# Altium integrated library library91.IntLib: 141 symbols (part 1 of 2)
Pins are listed as number, name and electrical type; pins without a type are passive.

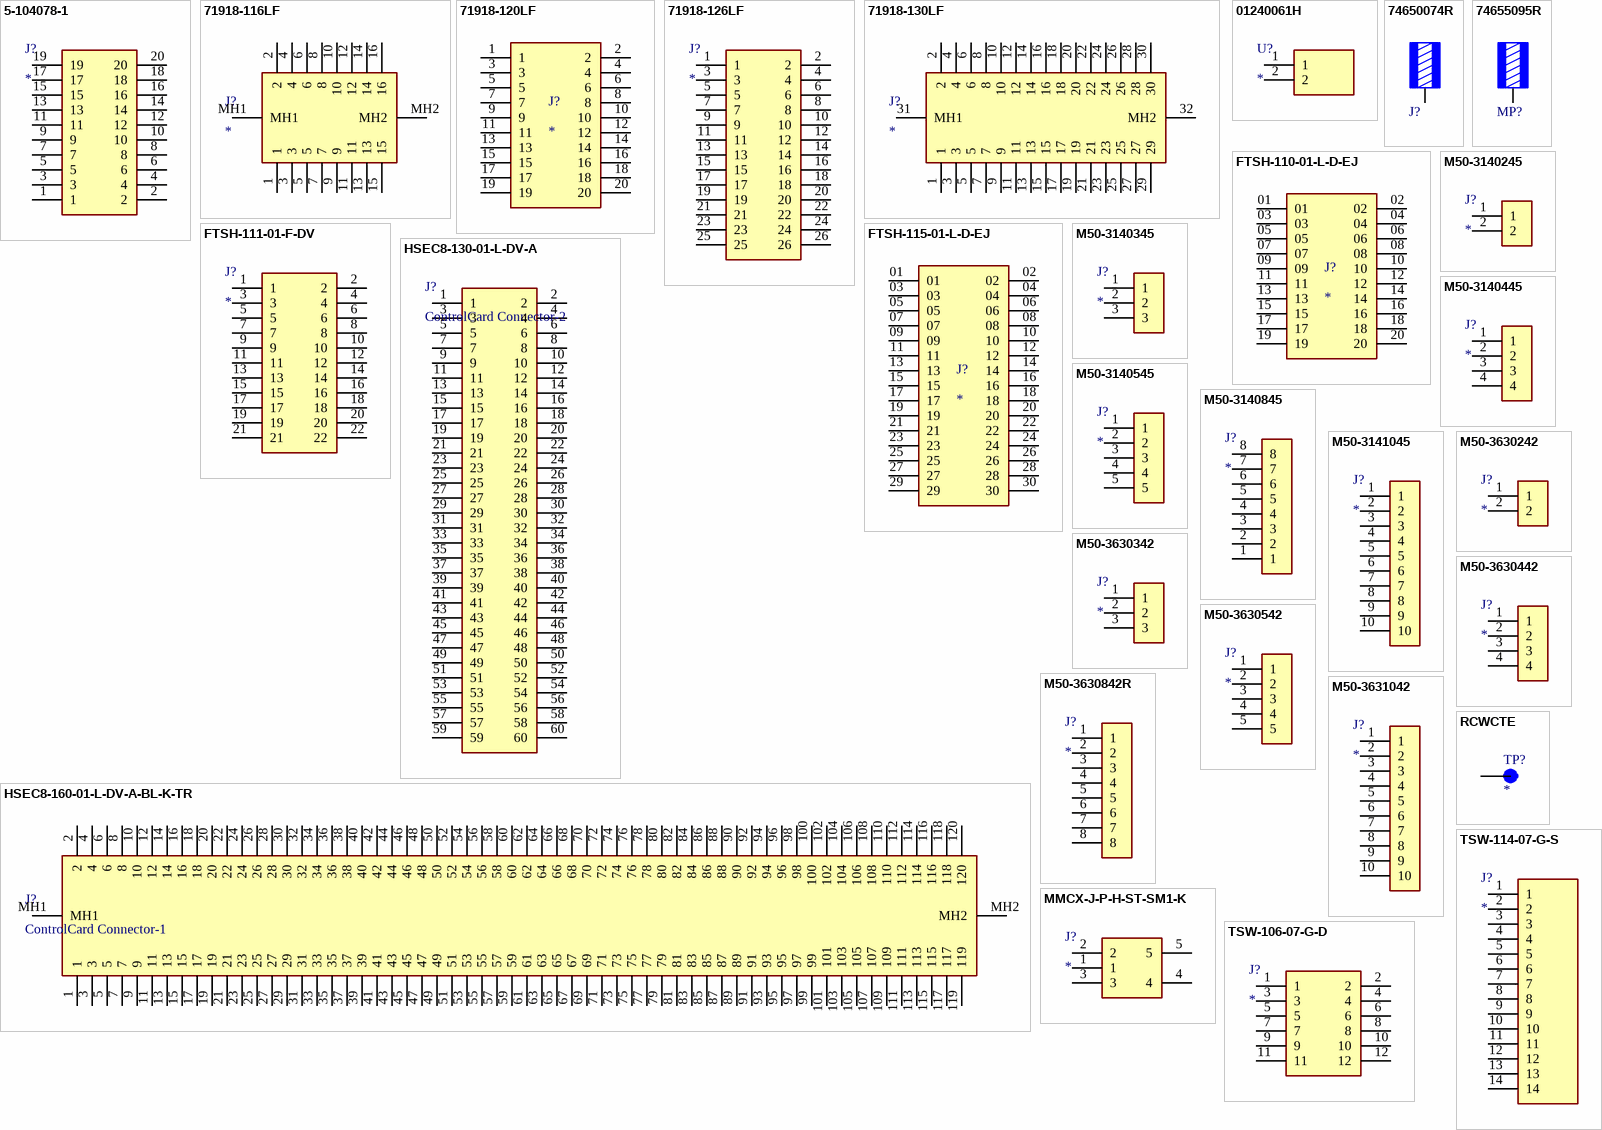
[diagram p0: symbols 5-104078-1 to TSW-114-07-G-S]

## 5-104078-1
designator J?
2x10 RECT 0.05 FOR JTAG-20; Manufacturer_Name: TE Connectivity; Manufacturer_Part_Number: 5-104078-1; Datasheet Link: https://www.te.com/commerce/DocumentDelivery/DDEControllerhttps://www.te.com/commerce/DocumentDelivery/DDEController?Action=showdoc&DocId=Customer+Drawing%7F104078%7FW%7Fpdf%7FEnglish%7FENG_CD_104078_W.pdf%7F5-104078-1?Action=showdoc&DocId=Customer+Drawin; Height: 8.97mm; Mouser Part Number: 571-5-104078-1; Mouser Price/Stock: https://www.mouser.co.uk/ProductDetail/TE-Connectivity/5-104078-1?qs=5TU6wCHKgpbr5ruvfBZGyA%3D%3D; Arrow Part Number: 5-104078-1; Arrow Price/Stock: https://www.arrow.com/en/products/5-104078-1/te-connectivity?utm_currency=USD&region=nac
footprint 51040781
pins: 1, 2, 3, 4, 5, 6, 7, 8, 9, 10, 11, 12, 13, 14, 15, 16, 17, 18, 19, 20

## 71918-116LF
designator J?
CONN HEADER VERT 16POS 2.54MM LATCHLOCK; Manufacturer_Name: Amphenol Communications Solutions; Manufacturer_Part_Number: 71918-116LF; Datasheet Link: https://cdn.amphenol-cs.com/media/wysiwyg/files/drawing/71918.pdf; Height: 17.7mm; Arrow Part Number: 71918-116LF; Arrow Price/Stock: https://www.arrow.com/en/products/71918-116lf/amphenol-fci?utm_currency=USD&region=europe
footprint 71918116LF
pins: 1, 2, 3, 4, 5, 6, 7, 8, 9, 10, 11, 12, 13, 14, 15, 16, MH1, MH2

## 71918-120LF
designator J?
CONN HEADER VERT 20POS 2.54MM LATCHLOCK; MF: Amphenol ICC; MP: 71918-120LF; Package: None; Price: None; Value: *; Availability: Unavailable
footprint AMPHENOL_71918-120LF
pins: 1, 2, 3, 4, 5, 6, 7, 8, 9, 10, 11, 12, 13, 14, 15, 16, 17, 18, 19, 20

## 71918-126LF
designator J?
CONN HEADER VERT 26POS 2.54MM LATCHLOCK; Manufacturer_Name: Amphenol Communications Solutions; Manufacturer_Part_Number: 71918-126LF; Datasheet Link: https://cdn.amphenol-cs.com/media/wysiwyg/files/drawing/71918.pdf; Height: 26.8mm
footprint 71918126LF
pins: 1, 2, 3, 4, 5, 6, 7, 8, 9, 10, 11, 12, 13, 14, 15, 16, 17, 18, 19, 20, 21, 22, 23, 24, 25, 26

## 71918-130LF
designator J?
CONN HEADER VERT 30POS 2.54MM LATCHLOCK; Manufacturer_Name: Amphenol Communications Solutions; Manufacturer_Part_Number: 71918-130LF; Datasheet Link: https://cdn.amphenol-cs.com/media/wysiwyg/files/drawing/71918.pdf; Height: 26.8mm; Arrow Part Number: 71918-130LF; Arrow Price/Stock: https://www.arrow.com/en/products/71918-130lf/amphenol-fci?utm_currency=USD&region=nac
footprint 71918130LF
pins: 1, 2, 3, 4, 5, 6, 7, 8, 9, 10, 11, 12, 13, 14, 15, 16, 17, 18, 19, 20, 21, 22, 23, 24, 25, 26, 27, 28, 29, 30, 31 MH1, 32 MH2

## 01240061H
designator U?
FUSE CLIP HOLDER THT 3AG/3AB 40A; Manufacturer_Name: LITTELFUSE; Manufacturer_Part_Number: 01240061H; Datasheet Link: https://www.littelfuse.com/media?resourcetype=datasheets&itemid=281b065a-d81e-4e26-9035-84e73d4bb028&filename=littelfuse-fuse-clip-124-datasheet.pdf; Height: 10.67mm; Mouser Part Number: 576-01240061H; Mouser Price/Stock: https://www.mouser.co.uk/ProductDetail/Littelfuse/01240061H?qs=81r%252BiQLm7BSgqEC6g%252BUS9Q%3D%3D; Arrow Part Number: 01240061H; Arrow Price/Stock: https://www.arrow.com/en/products/01240061h/littelfuse?utm_currency=USD&region=europe
footprint 01240061H
pins: 1, 2

## 74650074R
designator J?  (value not drawn)
TERM REDCUBE M4 THT; Manufacturer Part Number: 74650074R; Manufacturer: Wurth Elektronik; Match Code: WP-THRBU; Rated Current: 50A; Surface: Tin; Thread Length: 2.5mm; ComponentLink1Description: Website Link; ComponentLink1URL: https://www.we-online.com/redexpert/article/74650074R?ad; ComponentLink2Description: Datasheet Link; ComponentLink2URL: https://www.we-online.com/redexpert/spec/74650074R?ad; Category: REDCUBE THR; Mount: Through Hole Reflow; Operating Temperature Max: 150°C; Operating Temperature Min: -55°C; Packaging: Tape and Reel; Length: 7mm; Width: 7mm; Height: 3mm; Material: Brass; Number of Pins: 4; Thread Size: M4
footprint 74650074 (REDCUBE THR with internal thread, M4x2.5mm, through)
pins: 1

## 74655095R
designator MP?, comment M5 x 3.5mm  (value not drawn)
TERM REDCUBE M5 THT; Manufacturer Part Number: 74655095R; Manufacturer: Wurth Elektronik; Match Code: WP-THRBU; Rated Current: 85A; Surface: Tin; ComponentLink1Description: Website Link; ComponentLink1URL: https://www.we-online.com/redexpert/article/74655095R?ad; ComponentLink2Description: Datasheet Link; ComponentLink2URL: https://www.we-online.com/redexpert/spec/74655095R?ad; Category: REDCUBE THR; Mount: Through Hole Reflow; Operating Temperature Max: 150°C; Operating Temperature Min: -55°C; Packaging: Tape and Reel; Length: 10mm; Width: 10mm; Height: 4mm; Material: Brass; Number of Pins: 8; Thread Length: 3.5mm; Thread Size: M5
footprint 74655095 (REDCUBE THR with internal thread, M5x3.5mm, through)
pins: 1

## FTSH-110-01-L-D-EJ
designator J?
CONN HEADER VERT 20POS 1.27MM LATCHLOCK; MP: FTSH-110-01-L-D-EJ; MF: Samtec; Availability: Unavailable; Value: *; Price: None; Package: None
footprint SAMTEC_FTSH-110-01-L-D-EJ
pins: 01, 02, 03, 04, 05, 06, 07, 08, 09, 10, 11, 12, 13, 14, 15, 16, 17, 18, 19, 20

## FTSH-111-01-F-DV
designator J?
CONN HEADER SMD 2x11POS 1.27MM; Manufacturer_Name: SAMTEC; Manufacturer_Part_Number: FTSH-111-01-F-DV; Datasheet Link: https://suddendocs.samtec.com/prints/ftsh-1xx-xx-xxx-dv-xxx-xxx-x-xx-mkt.pdf?_gl=1*1e7216n*_ga*ODgwNjE2ODg0LjE2NDkxNjE4OTQ.*_ga_3KFNZC07WW*MTY3ODA4Njg4Ny45Ni4xLjE2NzgwODcxMjUuNi4wLjA.; Height: 6.1mm; Mouser Part Number: 200-FTSH11101FDV; Mouser Price/Stock: https://www.mouser.co.uk/ProductDetail/Samtec/FTSH-111-01-F-DV?qs=0lQeLiL1qyZO8bh%2FqcJwUQ%3D%3D; Arrow Part Number: FTSH-111-01-F-DV; Arrow Price/Stock: https://www.arrow.com/en/products/ftsh-111-01-f-dv/samtec?region=nac
footprint FTSH11101FDV
pins: 1, 2, 3, 4, 5, 6, 7, 8, 9, 10, 11, 12, 13, 14, 15, 16, 17, 18, 19, 20, 21, 22

## FTSH-115-01-L-D-EJ
designator J?
CONN HEADER VERT 30POS 1.27MM LATCHLOCK; MF: {'manufacturer': u'Samtec Inc.'}; MP: FTSH-115-01-L-D-EJ; Package: None; Price: None; Value: *; Availability: Unavailable
footprint SAMTEC_FTSH-115-01-L-D-EJ
pins: 01, 02, 03, 04, 05, 06, 07, 08, 09, 10, 11, 12, 13, 14, 15, 16, 17, 18, 19, 20, 21, 22, 23, 24, 25, 26, 27, 28, 29, 30

## HSEC8-130-01-L-DV-A
designator J?, comment ControlCard Connector-2
CONN EDGE DUAL FML 60POS 0.031; Manufacturer_Name: SAMTEC; Manufacturer_Part_Number: HSEC8-130-01-L-DV-A; Datasheet Link: https://suddendocs.samtec.com/prints/hsec8-1xxx-xx-xx-dv-x-xx-x-xx-mkt.pdf?_gl=1*nu2iep*_ga*OTExNDMzNjcuMTcxNzEyNzc4OQ..*_ga_3KFNZC07WW*MTcxNzIyNDUwOS4zLjEuMTcxNzIyNDU5OS40Mi4wLjA.; Height: 8.13mm; Mouser Part Number: 200-HSEC813001LDVA; Mouser Price/Stock: https://www.mouser.co.uk/ProductDetail/Samtec/HSEC8-130-01-L-DV-A?qs=PB6%2FjmICvI3aphKY%252B4QbpQ%3D%3D; Arrow Part Number: HSEC8-130-01-L-DV-A; Arrow Price/Stock: https://www.arrow.com/en/products/hsec8-130-01-l-dv-a/samtec?utm_currency=USD&region=nac
footprint HSEC813001LDVA
pins: 1, 2, 3, 4, 5, 6, 7, 8, 9, 10, 11, 12, 13, 14, 15, 16, 17, 18, 19, 20, 21, 22, 23, 24, 25, 26, 27, 28, 29, 30, 31, 32, 33, 34, 35, 36, 37, 38, 39, 40, 41, 42, 43, 44, 45, 46, 47, 48, 49, 50, 51, 52, 53, 54, 55, 56, 57, 58, 59, 60

## HSEC8-160-01-L-DV-A-BL-K-TR
designator J?, comment ControlCard Connector-1
CONN EDGE DUAL FML 120POS 0.031; Manufacturer_Name: SAMTEC; Manufacturer_Part_Number: HSEC8-160-01-L-DV-A-BL-K-TR; Datasheet Link: https://suddendocs.samtec.com/prints/hsec8-1xxx-xx-xx-dv-x-xx-x-xx-mkt.pdf; Height: 8.13mm; Mouser Part Number: 200-C816001LDVABLKTR; Mouser Price/Stock: https://www.mouser.co.uk/ProductDetail/Samtec/HSEC8-160-01-L-DV-A-BL-K-TR?qs=PB6%2FjmICvI3KOGQIEkyHjQ%3D%3D
footprint HSEC816001LDVABLKTR
pins: 1, 2, 3, 4, 5, 6, 7, 8, 9, 10, 11, 12, 13, 14, 15, 16, 17, 18, 19, 20, 21, 22, 23, 24, 25, 26, 27, 28, 29, 30, 31, 32, 33, 34, 35, 36, 37, 38, 39, 40, 41, 42, 43, 44, 45, 46, 47, 48, 49, 50, 51, 52, 53, 54, 55, 56, 57, 58, 59, 60, 61, 62, 63, 64, 65, 66, 67, 68, 69, 70, 71, 72, 73, 74, 75, 76, 77, 78, 79, 80, 81, 82, 83, 84, 85, 86, 87, 88, 89, 90, 91, 92, 93, 94, 95, 96, 97, 98, 99, 100, 101, 102, 103, 104, 105, 106, 107, 108, 109, 110, 111, 112, 113, 114, 115, 116, 117, 118, 119, 120, MH1, MH2

## M50-3140245
designator J?
CONN RCPT 2POS 1.27MM SMD; Manufacturer_Name: Harwin; Manufacturer_Part_Number: M50-3140245; Datasheet Link: https://componentsearchengine.com/Datasheets/1/M50-3140245.pdf; Height: 3.6mm; Mouser Part Number: 855-M50-3140245; Mouser Price/Stock: https://www.mouser.co.uk/ProductDetail/Harwin/M50-3140245?qs=%252BdQmOuGyFcEdctCQD%252BcFMQ%3D%3D
footprint M503140245
pins: 1, 2

## M50-3140345
designator J?
CONN RCPT 3POS 1.27MM SMD; Manufacturer_Name: Harwin; Manufacturer_Part_Number: M50-3140345; Datasheet Link: https://cdn.harwin.com/pdfs/M50-314.pdf; Height: 3.55mm; Mouser Part Number: 855-M50-3140345; Mouser Price/Stock: https://www.mouser.co.uk/ProductDetail/Harwin/M50-3140345?qs=%252BdQmOuGyFcGEXufOLF1LLg%3D%3D
footprint M503140345
pins: 1, 2, 3

## M50-3140445
designator J?
CONN RCPT 4POS 1.27MM SMD; Manufacturer_Name: Harwin; Manufacturer_Part_Number: M50-3140445; Datasheet Link: https://cdn.harwin.com/pdfs/M50-314.pdf; Height: 3.85mm; Mouser Part Number: 855-M50-3140445; Mouser Price/Stock: https://www.mouser.co.uk/ProductDetail/Harwin/M50-3140445?qs=%252BdQmOuGyFcEaFwvke74u0A%3D%3D
footprint M503140445
pins: 1, 2, 3, 4

## M50-3140545
designator J?
CONN RCPT 5POS 1.27MM SMD; Manufacturer_Name: Harwin; Manufacturer_Part_Number: M50-3140545; Datasheet Link: https://cdn.harwin.com/pdfs/M50-314.pdf; Height: 3.85mm; Mouser Part Number: 855-M50-3140545; Mouser Price/Stock: https://www.mouser.co.uk/ProductDetail/Harwin/M50-3140545?qs=%252BdQmOuGyFcFuucSHxtzcCQ%3D%3D
footprint M503140545
pins: 1, 2, 3, 4, 5

## M50-3140845
designator J?
CONN RCPT 8POS 1.27MM SMD; Manufacturer_Name: Harwin; Manufacturer_Part_Number: M50-3140845; Datasheet Link: https://cdn.harwin.com/pdfs/M50-314.pdf; Height: 3.85mm; Mouser Part Number: 855-M50-3140845; Mouser Price/Stock: https://www.mouser.co.uk/ProductDetail/Harwin/M50-3140845?qs=%252BdQmOuGyFcHQiIR7iiboCA%3D%3D
footprint M503140845
pins: 1, 2, 3, 4, 5, 6, 7, 8

## M50-3141045
designator J?
CONN RCPT 10POS 1.27MM SMD; Manufacturer_Name: Harwin; Manufacturer_Part_Number: M50-3141045; Datasheet Link: https://cdn.harwin.com/pdfs/M50-314.pdf; Height: 3.85mm; Mouser Part Number: 855-M50-3141045; Mouser Price/Stock: https://www.mouser.co.uk/ProductDetail/Harwin/M50-3141045?qs=%252BdQmOuGyFcGapsL%2FyAUiiQ%3D%3D
footprint M503141045
pins: 1, 2, 3, 4, 5, 6, 7, 8, 9, 10

## M50-3630242
designator J?
CONN HEADER SMD 2POS 1.27MM; Manufacturer_Name: Harwin; Manufacturer_Part_Number: M50-3630242; Datasheet Link: https://cdn.harwin.com/pdfs/M50-363.pdf; Height: 4.95mm; Mouser Part Number: 855-M50-3630242; Mouser Price/Stock: https://www.mouser.co.uk/ProductDetail/Harwin/M50-3630242?qs=%252BdQmOuGyFcGm5KVXDM4yoQ%3D%3D
footprint M503630242
pins: 1, 2

## M50-3630342
designator J?
CONN HEADER SMD 3POS 1.27MM; Manufacturer_Name: Harwin; Manufacturer_Part_Number: M50-3630342; Datasheet Link: https://cdn.harwin.com/pdfs/M50-363.pdf; Mouser Part Number: 855-M50-3630342; Mouser Price/Stock: https://www.mouser.co.uk/ProductDetail/Harwin/M50-3630342?qs=%252BdQmOuGyFcG0d8QKr5S%252BEA%3D%3D
footprint HUSRSP3W42P127_381X210X430P
pins: 1, 2, 3

## M50-3630442
designator J?
CONN HEADER SMD 4POS 1.27MM; Manufacturer_Name: Harwin; Manufacturer_Part_Number: M50-3630442; Datasheet Link: https://cdn.harwin.com/pdfs/M50-363.pdf; Height: 4mm; Mouser Part Number: 855-M50-3630442; Mouser Price/Stock: https://www.mouser.co.uk/ProductDetail/Harwin/M50-3630442?qs=%252BdQmOuGyFcE6k2Z86bbY9Q%3D%3D
footprint M503630442
pins: 1, 2, 3, 4

## M50-3630542
designator J?
CONN HEADER SMD 5POS 1.27MM; Manufacturer_Name: Harwin; Manufacturer_Part_Number: M50-3630542; Datasheet Link: https://www.harwin.com/api/download/?document=https://content.harwin.com/m/6cdc14cba4152813/original/DRG-02647-Technical-Drawing-Datasheet-M50-363-pdf.pdf; Height: 4.95mm; Mouser Part Number: 855-M50-3630542; Mouser Price/Stock: https://www.mouser.co.uk/ProductDetail/Harwin/M50-3630542?qs=%252BdQmOuGyFcGTcknJK14WpQ%3D%3D
footprint M503630542
pins: 1, 2, 3, 4, 5

## M50-3630842R
designator J?
CONN HEADER SMD 8POS 1.27MM; Manufacturer_Name: Harwin; Manufacturer_Part_Number: M50-3630842; Datasheet Link: https://cdn.harwin.com/pdfs/M50-363.pdf; Mouser Part Number: 855-M50-3630842; Mouser Price/Stock: https://www.mouser.co.uk/ProductDetail/Harwin/M50-3630842?qs=%252BdQmOuGyFcFqwDSPVZ2BSw%3D%3D
footprint M503630842R
pins: 1, 2, 3, 4, 5, 6, 7, 8

## M50-3631042
designator J?
CONN HEADER SMD 10POS 1.27MM; Manufacturer_Name: Harwin; Manufacturer_Part_Number: M50-3631042; Datasheet Link: https://cdn.harwin.com/pdfs/M50-363.pdf; Height: 4.7mm; Mouser Part Number: 855-M50-3631042; Mouser Price/Stock: https://www.mouser.co.uk/ProductDetail/Harwin/M50-3631042?qs=%252BdQmOuGyFcGLl60dqjvGKA%3D%3D
footprint M503631042
pins: 1, 2, 3, 4, 5, 6, 7, 8, 9, 10

## MMCX-J-P-H-ST-SM1-K
designator J?
CONN MMCX JACK STR 50 OHM SMD; Manufacturer_Name: SAMTEC; Manufacturer_Part_Number: MMCX-J-P-H-ST-SM1-K; Datasheet Link: https://suddendocs.samtec.com/prints/mmcx-j-p-x-st-sm1-x-xx-mkt.pdf?_gl=1*1flhnhy*_ga*NjI3MTY1ODIuMTYwNzc1NTkzMw..*_ga_3KFNZC07WW*MTY2NTEyMzI4MC4yMy4xLjE2NjUxMjMzMDguMzIuMC4w; Height: 5.13mm; Mouser Part Number: 200-MMCX-JPHSTSM1K; Mouser Price/Stock: https://www.mouser.co.uk/ProductDetail/Samtec/MMCX-J-P-H-ST-SM1-K?qs=ahcBuItHZ3zogOqFmEZEAA%3D%3D; Arrow Part Number: MMCX-J-P-H-ST-SM1-K; Arrow Price/Stock: https://www.arrow.com/en/products/mmcx-j-p-h-st-sm1-k/samtec
footprint MMCXJPHSTSM1K
pins: 1, 2, 3, 4, 5

## RCWCTE
designator TP?
TEST POINT 1206; MF: KOA Speer; MP: RCWCTE; Check_prices: https://www.snapeda.com/parts/RCWCTE/KOA+Speer/view-part/?ref=eda; SnapEDA_Link: https://www.snapeda.com/parts/RCWCTE/KOA+Speer/view-part/?ref=snap; Digi-Key_Part_Number: 2019-RCWCTETR-ND; Value: *; Purchase-URL: https://pricing.snapeda.com/search/part/RCWCTE/?ref=eda; Package: None
footprint TP420X150
pins: 1 TP

## TSW-106-07-G-D
designator J?
CONN HEADER VERT 2x6POS 2.54MM; Manufacturer_Name: SAMTEC; Manufacturer_Part_Number: TSW-106-07-G-D; Datasheet Link: https://suddendocs.samtec.com/prints/tsw-xxx-xx-xxx-x-xx-xxx-mkt.pdf?_gl=1*rdaod8*_gcl_aw*R0NMLjE3MzcxMTE4NDAuRUFJYUlRb2JDaE1JM19fXzc4ejhpZ01WMUlwb0NSMzcwQlU1RUFBWUFTQUFFZ0podlBEX0J3RQ..*_gcl_au*NTk5MDQ5OTQ2LjE3MzUwNDA2NzY.*_ga*NDc0MTAxNDgwLjE3MDMxODU2ODU; Height: 8.58mm; Mouser Part Number: 200-TSW10607GD; Mouser Price/Stock: https://www.mouser.co.uk/ProductDetail/Samtec/TSW-106-07-G-D?qs=hzq9O0YpnZugmvcdQ5Ig%2Fw%3D%3D; Arrow Part Number: TSW-106-07-G-D; Arrow Price/Stock: https://www.arrow.com/en/products/tsw-106-07-g-d/samtec?utm_currency=USD&region=europe
footprint TSW10607GD (Footprint not found)
pins: 1, 2, 3, 4, 5, 6, 7, 8, 9, 10, 11, 12

## TSW-114-07-G-S
designator J?
CONN HEADER VERT 14POS 2.54MM; Manufacturer_Name: SAMTEC; Manufacturer_Part_Number: TSW-114-07-G-S; Datasheet Link: http://suddendocs.samtec.com/prints/tsw-xxx-xx-xxx-x-xx-xxx-mkt.pdf; Mouser Part Number: 200-TSW11407GS; Mouser Price/Stock: https://www.mouser.co.uk/ProductDetail/Samtec/TSW-114-07-G-S?qs=rU5fayqh%252BE2%2Ft1%252BlziCVkQ%3D%3D; Arrow Part Number: TSW-114-07-G-S; Arrow Price/Stock: https://www.arrow.com/en/products/tsw-114-07-g-s/samtec?utm_currency=USD&region=nac
footprint TSW-114-XX-YY-S
pins: 1, 2, 3, 4, 5, 6, 7, 8, 9, 10, 11, 12, 13, 14


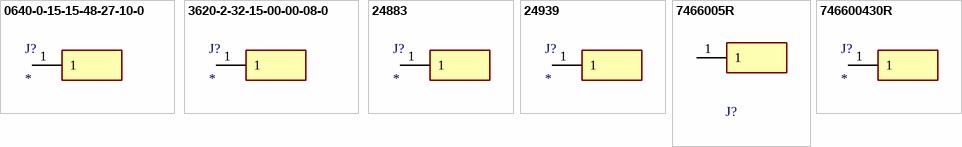
[diagram p1: symbols 0640-0-15-15-48-27-10-0 to 746600430R]

## 0640-0-15-15-48-27-10-0
designator J?
RECEPTACLE FOR 3620; Manufacturer_Name: Mill-Max; Manufacturer_Part_Number: 0640-0-15-15-48-27-10-0; Datasheet Link: https://www.mill-max.com/products/datasheet/recpin/0640-0-15-15-48-27-10-0; Mouser Part Number: 575-0640015154827100; Mouser Price/Stock: https://www.mouser.co.uk/ProductDetail/Mill-Max/0640-0-15-15-48-27-10-0?qs=PzGy0jfpSMuT%252Bp0XzJfPWQ%3D%3D; Arrow Part Number: 0640-0-15-15-48-27-10-0; Arrow Price/Stock: https://www.arrow.com/en/products/0640-0-15-15-48-27-10-0/mill-max?utm_currency=USD&region=nac
footprint 0640015154827100
pins: 1

## 3620-2-32-15-00-00-08-0
designator J?
CONN PC PIN CIRC 0.040DIA GOLD; Manufacturer_Name: Mill-Max; Manufacturer_Part_Number: 3620-2-32-15-00-00-08-0; Datasheet Link: https://www.mouser.com/datasheet/2/273/219M-269419.pdf; Height: 3.96mm; Mouser Part Number: 575-3620232150000; Mouser Price/Stock: https://www.mouser.co.uk/ProductDetail/Mill-Max/3620-2-32-15-00-00-08-0?qs=1wcGhl1mtLOgyth2QbSP9Q%3D%3D; Arrow Part Number: 3620-2-32-15-00-00-08-0; Arrow Price/Stock: https://www.arrow.com/en/products/3620-2-32-15-00-00-08-0/mill-max?utm_currency=USD&region=nac
footprint 3620232150000080
pins: 1

## 24883
designator J?
SM STANDOFF 4MM; Manufacturer_Name: Keystone Electronics; Manufacturer_Part_Number: 24883; Datasheet Link: https://www.keyelco.com/product-pdf.cfm?p=14492; Height: 8.13mm; Mouser Part Number: 534-24883; Mouser Price/Stock: https://www.mouser.co.uk/ProductDetail/Keystone-Electronics/24885?qs=u16ybLDytRauJq9rQZt4xg%3D%3D
footprint 24883
pins: 1

## 24939
designator J?
M3 ZERO HEIGHT THREADED INSERT; Manufacturer_Name: Keystone Electronics; Manufacturer_Part_Number: 24939; Height: 0.3mm; Mouser Part Number: 534-24939; Mouser Price/Stock: https://www.mouser.co.uk/ProductDetail/Keystone-Electronics/24939?qs=Znm5pLBrcAIvhBQ75Y3W5A%3D%3D
footprint 24939
pins: 1

## 7466005R
designator J?  (value not drawn)
TERM REDCUBE M5 SMD; Manufacturer Part Number: 7466005R; Manufacturer: Wurth Elektronik; Match Code: WP-SMBU; Outer Diameter: 9mm; Rated Current: 70A; Surface: Tin; Thread Length: 6mm; ComponentLink1Description: Website Link; ComponentLink1URL: https://www.we-online.com/redexpert/article/7466005R?ad; ComponentLink2Description: Datasheet Link; ComponentLink2URL: https://www.we-online.com/redexpert/spec/7466005R?ad; Category: REDCUBE SMT; Mount: SMT; Operating Temperature Max: 150°C; Operating Temperature Min: -55°C; Packaging: Tape and Reel; Height: 5mm; Diameter: 9mm; Material: Brass; Thread Size: M5
footprint 7466005R (SMD with internal through-hole thread, M5-6mm)
pins: 1

## 746600430R
designator J?
TERM REDCUBE M4 SMD; Manufacturer_Name: Wurth Elektronik; Manufacturer_Part_Number: 746600430R; Datasheet Link: http://uk.rs-online.com/web/p/products/1769998; Height: 4mm; Mouser Part Number: 710-746600430R; Mouser Price/Stock: https://www.mouser.co.uk/ProductDetail/Wurth-Elektronik/746600430R?qs=lBTPRtX1sU9kA8hYvUSsfw%3D%3D
footprint 746600430R (SMD with internal through-hole thread, M4-4mm)
pins: 1


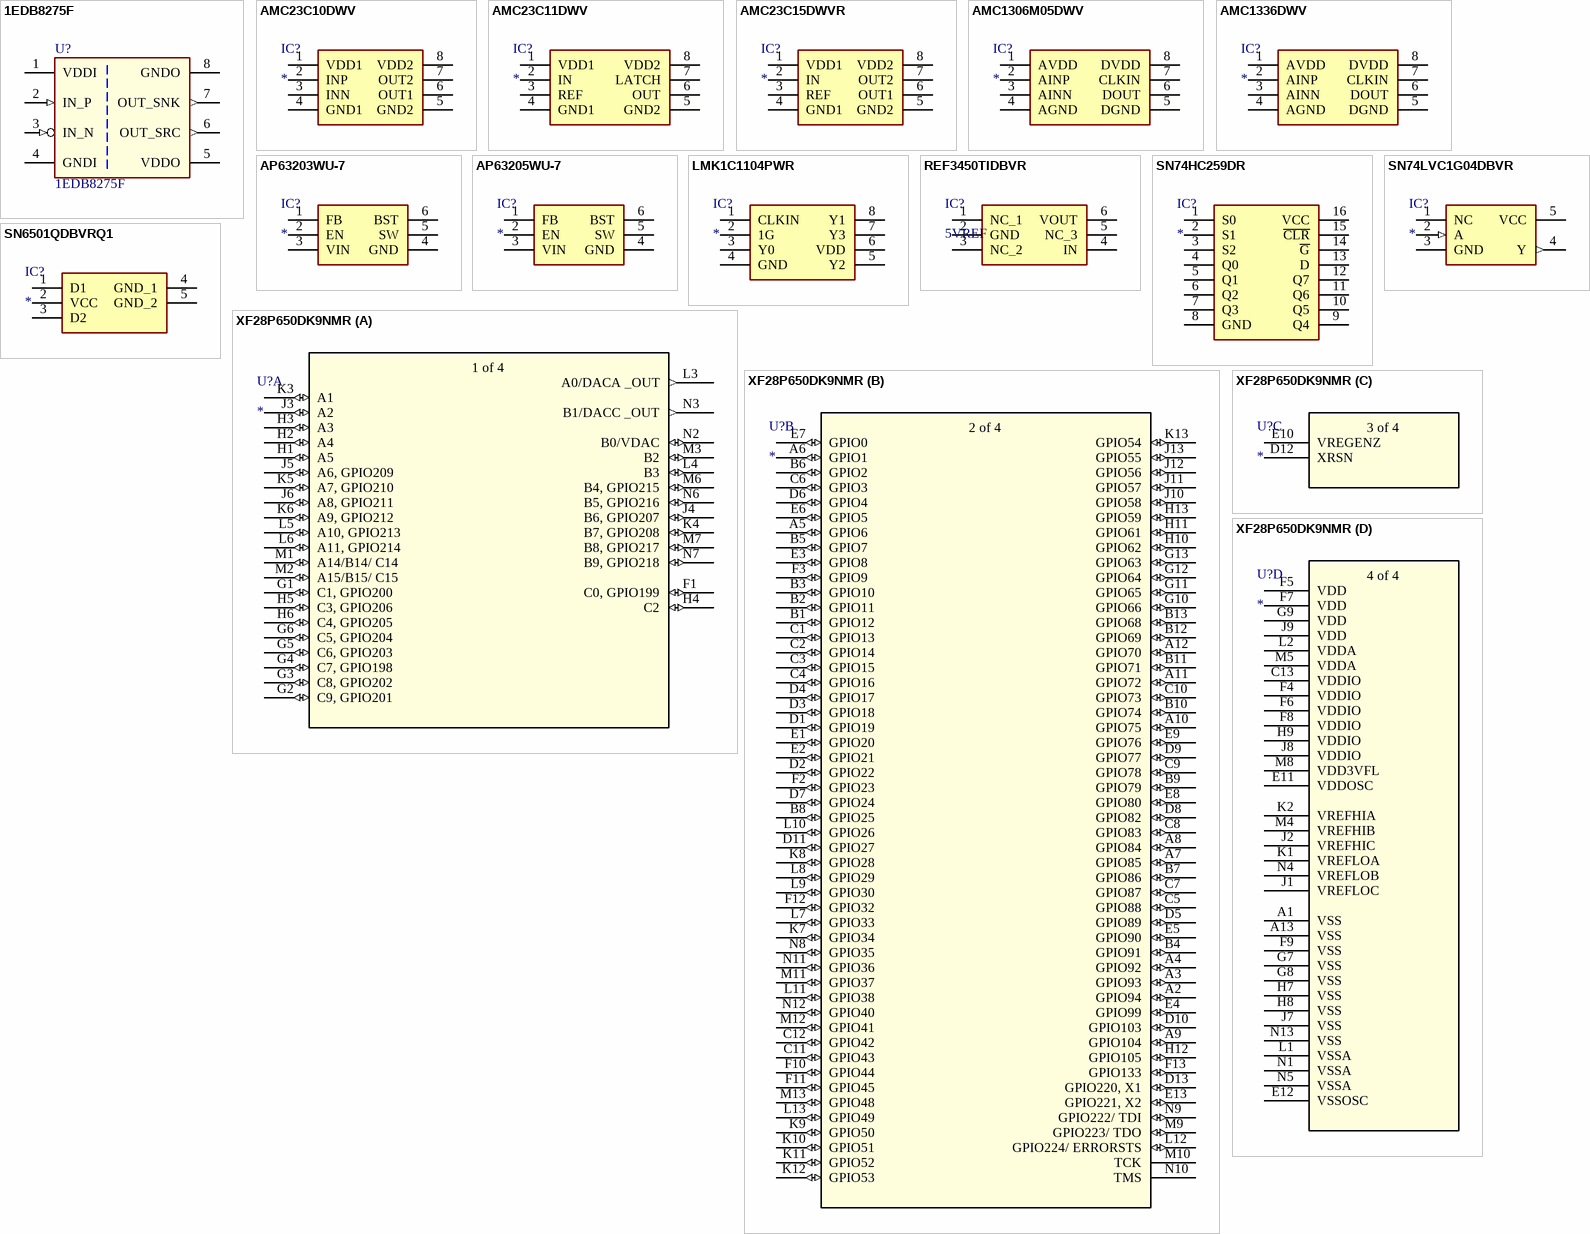
[diagram p2: symbols 1EDB8275F to XF28P650DK9NMR]

## 1EDB8275F
designator U?
Single-channel isolated gate-driver 8V UVLO High-Side; Symbol type: Single-channel isolated gate-driver; ComponentLink1Description: Datasheet; ComponentLink1URL: https://www.infineon.com/dgdl/Infineon-1EDB8275F-DataSheet-v02_02-EN.pdf?fileId=8ac78c8c7d0d8da4017d2c9fc1dd6c0b
footprint SOIC-8/127P600X175-8N-10 (SOIC,1.27mm pitch;8 pin,3.90mm W X 4.90mm L X 1.75mm H body)
pins: 1 VDDI (power) "Input-side supply voltage", 2 IN_P (in) "Non-inverting driver input", 3 IN_N (in) "Inverting driver input", 4 GNDI (power) "Input-side ground reference", 5 VDDO (power) "Output-side supply voltage", 6 OUT_SRC (out) "Driver output source", 7 OUT_SNK (out) "Driver output sink", 8 GNDO (power) "Output-side ground reference"

## AMC23C10DWV
designator IC?
Fast-response, reinforced, isolated differential comparator with open-drain and push-pull outputs for ZCD; Manufacturer_Name: Texas Instruments; Manufacturer_Part_Number: AMC23C10DWV; Datasheet Link: https://www.ti.com/lit/ds/symlink/amc23c10.pdf?HQS=dis-mous-null-mousermode-dsf-pf-null-wwe&ts=1673274665261&ref_url=https%253A%252F%252Fwww.mouser.in%252F; Height: 2.8mm; Mouser Part Number: 595-AMC23C10DWV; Mouser Price/Stock: https://www.mouser.co.uk/ProductDetail/Texas-Instruments/AMC23C10DWV?qs=By6Nw2ByBD3PeP8lOrmzwA%3D%3D
footprint SOIC127P1150X280-8N
pins: 1 VDD1, 2 INP, 3 INN, 4 GND1, 5 GND2, 6 OUT1, 7 OUT2, 8 VDD2

## AMC23C11DWV
designator IC?
Fast-response, reinforced, isolated comparator with adjustable threshold and latch function for OVP; Manufacturer_Name: Texas Instruments; Manufacturer_Part_Number: AMC23C11DWV; Datasheet Link: https://www.ti.com/lit/ds/symlink/amc23c11.pdf; Height: 2.8mm; Mouser Part Number: 595-AMC23C11DWV; Mouser Price/Stock: https://www.mouser.co.uk/ProductDetail/Texas-Instruments/AMC23C11DWV?qs=By6Nw2ByBD0b%2FD7l%2FEQWqQ%3D%3D; Arrow Part Number: AMC23C11DWV; Arrow Price/Stock: https://www.arrow.com/en/products/amc23c11dwv/texas-instruments?utm_currency=USD&region=nac
footprint SOIC127P1150X280-8N
pins: 1 VDD1, 2 IN, 3 REF, 4 GND1, 5 GND2, 6 OUT, 7 LATCH, 8 VDD2

## AMC23C15DWVR
designator IC?
Dual, Fast Response, Reinforced Isolated Window Comparator With / Adjustable Threshold; Manufacturer_Name: Texas Instruments; Manufacturer_Part_Number: AMC23C15DWVR; Datasheet Link: https://www.ti.com/lit/gpn/amc23c15; Height: 2.8mm; Mouser Part Number: 595-AMC23C15DWVR; Mouser Price/Stock: https://www.mouser.com.tr/ProductDetail/Texas-Instruments/AMC23C15DWVR?qs=OcgtsXO%252B3gtYuV38385y1w%3D%3D; Arrow Part Number: AMC23C15DWVR; Arrow Price/Stock: https://www.arrow.com/en/products/amc23c15dwvr/texas-instruments?q=AMC23C15DWVR
footprint SOIC127P1150X280-8N
pins: 1 VDD1, 2 IN, 3 REF, 4 GND1, 5 GND2, 6 OUT1, 7 OUT2, 8 VDD2

## AMC1306M05DWV
designator IC?
High-Precision, ±50-mV Input, Reinforced Isolated Delta-Sigma Modulator / for Voltage Sensing Applications; Manufacturer_Name: Texas Instruments; Manufacturer_Part_Number: AMC1306M05DWV; Datasheet Link: http://www.ti.com/lit/gpn/amc1306m05; Height: 2.8mm; Mouser Part Number: 595-AMC1306M05DWV; Mouser Price/Stock: https://www.mouser.co.uk/ProductDetail/Texas-Instruments/AMC1306M05DWV?qs=HXFqYaX1Q2yF1KpRG9U4Vw%3D%3D; Arrow Part Number: AMC1306M05DWV; Arrow Price/Stock: https://www.arrow.com/en/products/amc1306m05dwv/texas-instruments?utm_currency=USD&region=nac
footprint SOIC127P1150X280-8N
pins: 1 AVDD, 2 AINP, 3 AINN, 4 AGND, 5 DGND, 6 DOUT, 7 CLKIN, 8 DVDD

## AMC1336DWV
designator IC?
High-Precision, 1V Input, Reinforced Isolated Delta-Sigma Modulator / for Voltage Sensing Applications; Manufacturer_Name: Texas Instruments; Manufacturer_Part_Number: AMC1336DWV; Datasheet Link: http://www.ti.com/general/docs/suppproductinfo.tsp?distId=10&gotoUrl=http%3A%2F%2Fwww.ti.com%2Flit%2Fgpn%2Famc1336; Height: 2.8mm; Mouser Part Number: 595-AMC1336DWV; Mouser Price/Stock: https://www.mouser.co.uk/ProductDetail/Texas-Instruments/AMC1336DWV?qs=XeJtXLiO41SGLchv4J%252BtxQ%3D%3D; Arrow Part Number: AMC1336DWV; Arrow Price/Stock: https://www.arrow.com/en/products/amc1336dwv/texas-instruments?utm_currency=USD&region=nac
footprint SOIC127P1150X280-8N
pins: 1 AVDD, 2 AINP, 3 AINN, 4 AGND, 5 DGND, 6 DOUT, 7 CLKIN, 8 DVDD

## AP63203WU-7
designator IC?
IC REG BUCK 3.3V 2A TSOT23-6; Manufacturer_Name: Diodes Incorporated; Manufacturer_Part_Number: AP63203WU-7; Datasheet Link: https://www.diodes.com/assets/Datasheets/AP63200-AP63201-AP63203-AP63205.pdf; Height: 1mm; Mouser Part Number: 621-AP63203WU-7; Mouser Price/Stock: https://www.mouser.co.uk/ProductDetail/Diodes-Incorporated/AP63203WU-7?qs=u16ybLDytRZ1JqxbuLkMJw%3D%3D; Arrow Part Number: AP63203WU-7; Arrow Price/Stock: https://www.arrow.com/en/products/ap63203wu-7/diodes-incorporated?utm_currency=USD&region=europe
footprint AP63203WU7
pins: 1 FB, 2 EN, 3 VIN, 4 GND, 5 SW, 6 BST

## AP63205WU-7
designator IC?
IC REG BUCK 5V 2A TSOT23-6; Manufacturer_Name: Diodes Incorporated; Manufacturer_Part_Number: AP63205WU-7; Datasheet Link: https://www.diodes.com//assets/Datasheets/AP63200-AP63201-AP63203-AP63205.pdf; Height: 1mm; Mouser Part Number: 621-AP63205WU-7; Mouser Price/Stock: https://www.mouser.co.uk/ProductDetail/Diodes-Incorporated/AP63205WU-7?qs=u16ybLDytRZtkj8PzdWCOw%3D%3D; Arrow Part Number: AP63205WU-7; Arrow Price/Stock: https://www.arrow.com/en/products/ap63205wu-7/diodes-incorporated?utm_currency=USD&region=europe
footprint AP63205WU7
pins: 1 FB, 2 EN, 3 VIN, 4 GND, 5 SW, 6 BST

## LMK1C1104PWR
designator IC?
IC CLK BUFFER 1:4 250MHZ 8TSSOP; Manufacturer_Name: Texas Instruments; Manufacturer_Part_Number: LMK1C1104PWR; Datasheet Link: https://www.ti.com/lit/gpn/LMK1C1104; Height: 1.2mm; Mouser Part Number: 595-LMK1C1104PWR; Mouser Price/Stock: https://www.mouser.co.uk/ProductDetail/Texas-Instruments/LMK1C1104PWR?qs=xZ%2FP%252Ba9zWqZKsBQFHYffew%3D%3D; Arrow Part Number: LMK1C1104PWR; Arrow Price/Stock: https://www.arrow.com/en/products/lmk1c1104pwr/texas-instruments?utm_currency=USD&region=nac
footprint SOP65P640X120-8N
pins: 1 CLKIN, 2 1G, 3 Y0, 4 GND, 5 Y2, 6 VDD, 7 Y3, 8 Y1

## REF3450TIDBVR
designator IC?, comment 5VREF
IC VREF SERIES 5V SOT23-6; Manufacturer_Name: Texas Instruments; Manufacturer_Part_Number: REF3450TIDBVR; Datasheet Link: https://www.ti.com/lit/ds/symlink/ref3450.pdf?ts=1625451766832&ref_url=https%253A%252F%252Fwww.ti.com%252Fsitesearch%252Fdocs%252Funiversalsearch.tsp%253FlangPref%253Den-US%2526searchTerm%253DREF3450TIDBVR%2526nr%253D7; Height: 1.45mm; Mouser Part Number: 595-REF3450TIDBVR; Mouser Price/Stock: https://www.mouser.co.uk/ProductDetail/Texas-Instruments/REF3450TIDBVR?qs=QNEnbhJQKvaJ9wk9nNLvXA%3D%3D; Arrow Part Number: REF3450TIDBVR; Arrow Price/Stock: https://www.arrow.com/en/products/ref3450tidbvr/texas-instruments?utm_currency=USD&region=nac
footprint SOT95P280X145-6N
pins: 1 NC_1, 2 GND, 3 NC_2, 4 IN, 5 NC_3, 6 VOUT

## SN74HC259DR
designator IC?
IC D-TYPE ADDR 1:8; Manufacturer_Name: Texas Instruments; Manufacturer_Part_Number: SN74HC259DR; Datasheet Link: https://datasheet.datasheetarchive.com/originals/distributors/Datasheets-SFU2/DSASFU100029158.pdf; Height: 1.75mm; Mouser Part Number: 595-SN74HC259DR; Mouser Price/Stock: https://www.mouser.co.uk/ProductDetail/Texas-Instruments/SN74HC259DR?qs=AgY10sKTvDLBsK%2FZqb34WQ%3D%3D; Arrow Part Number: SN74HC259DR; Arrow Price/Stock: https://www.arrow.com/en/products/sn74hc259dr/texas-instruments?utm_currency=USD&region=nac
footprint SOIC127P600X175-16N
pins: 1 S0, 2 S1, 3 S2, 4 Q0, 5 Q1, 6 Q2, 7 Q3, 8 GND, 9 Q4, 10 Q5, 11 Q6, 12 Q7, 13 D, 14 ~{G}, 15 ~{CLR}, 16 VCC

## SN74LVC1G04DBVR
designator IC?
IC INVERTER 1CH 1-INP SOT23-5; Manufacturer_Name: Texas Instruments; Manufacturer_Part_Number: SN74LVC1G04DBVR; Datasheet Link: http://www.ti.com/lit/gpn/sn74lvc1g04; Height: 1.45mm; Mouser Part Number: 595-SN74LVC1G04DBVR; Mouser Price/Stock: https://www.mouser.co.uk/ProductDetail/Texas-Instruments/SN74LVC1G04DBVR?qs=AMJt07B76utiScZvQx5a7w%3D%3D; Arrow Part Number: SN74LVC1G04DBVR; Arrow Price/Stock: https://www.arrow.com/en/products/sn74lvc1g04dbvr/texas-instruments?region=nac
footprint SOT95P280X145-5N
pins: 1 NC, 2 A (in), 3 GND (power), 4 Y (out), 5 VCC (power)

## SN6501QDBVRQ1
designator IC?
Transformer Driver PMIC SOT-23-5; Manufacturer_Name: Texas Instruments; Manufacturer_Part_Number: SN6501QDBVRQ1; Datasheet Link: http://www.ti.com/lit/gpn/sn6501-q1; Height: 1.45mm; Mouser Part Number: 595-SN6501QDBVRQ1; Mouser Price/Stock: https://www.mouser.co.uk/ProductDetail/Texas-Instruments/SN6501QDBVRQ1?qs=uSgeFhR2uNhePSB4wgv7mg%3D%3D; Arrow Part Number: SN6501QDBVRQ1; Arrow Price/Stock: https://www.arrow.com/en/products/sn6501qdbvrq1/texas-instruments?utm_currency=USD&region=nac
footprint SOT95P280X145-5N
pins: 1 D1, 2 VCC, 3 D2, 4 GND_1, 5 GND_2

## XF28P650DK9NMR
designator U?
No Description Available; Mfr_Name: Texas Instruments; Type: Embedded; RefDes: RefDes
footprint NFBGA169_NMR_TEX
part A pins: F1 C0, GPIO199 (io), G1 C1, GPIO200 (io), G2 C9, GPIO201 (io), G3 C8, GPIO202 (io), G4 C7, GPIO198 (io), G5 C6, GPIO203 (io), G6 C5, GPIO204 (io), H1 A5 (io), H2 A4 (io), H3 A3 (io), H4 C2 (io), H5 C3, GPIO206 (io), H6 C4, GPIO205 (io), J3 A2 (io), J4 B6, GPIO207 (io), J5 A6, GPIO209 (io), J6 A8, GPIO211 (io), K3 A1 (io), K4 B7, GPIO208 (io), K5 A7, GPIO210 (io), K6 A9, GPIO212 (io), L3 A0/DACA _OUT (out), L4 B3 (io), L5 A10, GPIO213 (io), L6 A11, GPIO214 (io), M1 A14/B14/ C14 (io), M2 A15/B15/ C15 (io), M3 B2 (io), M6 B4, GPIO215 (io), M7 B8, GPIO217 (io), N2 B0/VDAC (io), N3 B1/DACC _OUT (out), N6 B5, GPIO216 (io), N7 B9, GPIO218 (io)
part B pins: A2 GPIO94 (io), A3 GPIO93 (io), A4 GPIO92 (io), A5 GPIO6 (io), A6 GPIO1 (io), A7 GPIO85 (io), A8 GPIO84 (io), A9 GPIO104 (io), A10 GPIO75 (io), A11 GPIO72 (io), A12 GPIO70 (io), B1 GPIO12 (io), B2 GPIO11 (io), B3 GPIO10 (io), B4 GPIO91 (io), B5 GPIO7 (io), B6 GPIO2 (io), B7 GPIO86 (io), B8 GPIO25 (io), B9 GPIO79 (io), B10 GPIO74 (io), B11 GPIO71 (io), B12 GPIO69 (io), B13 GPIO68 (io), C1 GPIO13 (io), C2 GPIO14 (io), C3 GPIO15 (io), C4 GPIO16 (io), C5 GPIO88 (io), C6 GPIO3 (io), C7 GPIO87 (io), C8 GPIO83 (io), C9 GPIO78 (io), C10 GPIO73 (io), C11 GPIO43 (io), C12 GPIO42 (io), D1 GPIO19 (io), D2 GPIO22 (io), D3 GPIO18 (io), D4 GPIO17 (io), D5 GPIO89 (io), D6 GPIO4 (io), D7 GPIO24 (io), D8 GPIO82 (io), D9 GPIO77 (io), D10 GPIO103 (io), D11 GPIO27 (io), D13 GPIO220, X1 (io), E1 GPIO20 (io), E2 GPIO21 (io), E3 GPIO8 (io), E4 GPIO99 (io), E5 GPIO90 (io), E6 GPIO5 (io), E7 GPIO0 (io), E8 GPIO80 (io), E9 GPIO76 (io), E13 GPIO221, X2 (io), F2 GPIO23 (io), F3 GPIO9 (io), F10 GPIO44 (io), F11 GPIO45 (io), F12 GPIO32 (io), F13 GPIO133 (io), G10 GPIO66 (io), G11 GPIO65 (io), G12 GPIO64 (io), G13 GPIO63 (io), H10 GPIO62 (io), H11 GPIO61 (io), H12 GPIO105 (io), H13 GPIO59 (io), J10 GPIO58 (io), J11 GPIO57 (io), J12 GPIO56 (io), J13 GPIO55 (io), K7 GPIO34 (io), K8 GPIO28 (io), K9 GPIO50 (io), K10 GPIO51 (io), K11 GPIO52 (io), K12 GPIO53 (io), K13 GPIO54 (io), L7 GPIO33 (io), L8 GPIO29 (io), L9 GPIO30 (io), L10 GPIO26 (io), L11 GPIO38 (io), L12 GPIO224/ ERRORSTS (io), L13 GPIO49 (io), M9 GPIO223/ TDO (io), M10 TCK, M11 GPIO37 (io), M12 GPIO41 (io), M13 GPIO48 (io), N8 GPIO35 (io), N9 GPIO222/ TDI (io), N10 TMS, N11 GPIO36 (io), N12 GPIO40 (io)
part C pins: D12 XRSN, E10 VREGENZ
part D pins: A1 VSS (power), A13 VSS (power), C13 VDDIO (power), E11 VDDOSC (power), E12 VSSOSC (power), F4 VDDIO (power), F5 VDD (power), F6 VDDIO (power), F7 VDD (power), F8 VDDIO (power), F9 VSS (power), G7 VSS (power), G8 VSS (power), G9 VDD (power), H7 VSS (power), H8 VSS (power), H9 VDDIO (power), J1 VREFLOC (power), J2 VREFHIC (power), J7 VSS (power), J8 VDDIO (power), J9 VDD (power), K1 VREFLOA (power), K2 VREFHIA (power), L1 VSSA (power), L2 VDDA (power), M4 VREFHIB (power), M5 VDDA (power), M8 VDD3VFL (power), N1 VSSA (power), N4 VREFLOB (power), N5 VSSA (power), N13 VSS (power)
part A text: 1 of 4
part B text: 2 of 4
part C text: 3 of 4
part D text: 4 of 4


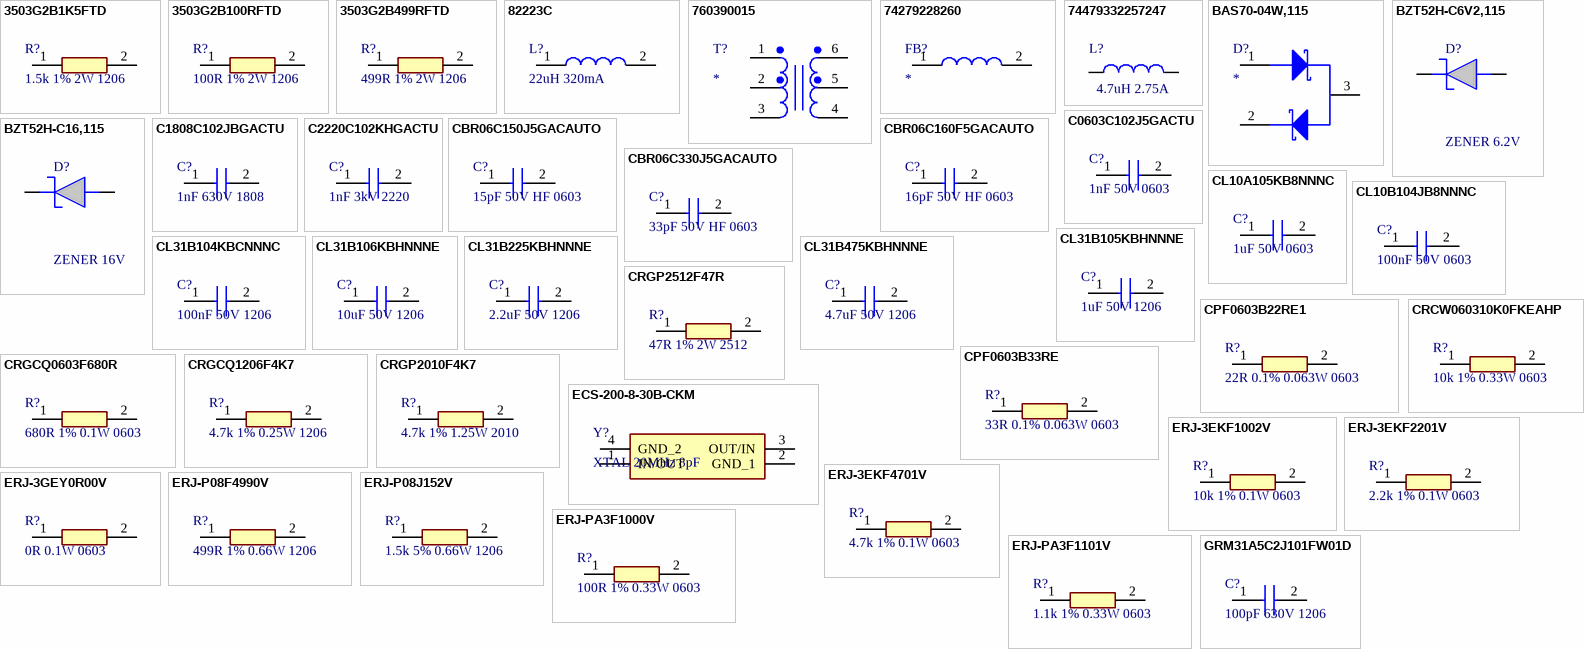
[diagram p3: symbols 3503G2B1K5FTD to GRM31A5C2J101FW01D]

## 3503G2B1K5FTD
designator R?, comment 1.5k 1% 2W 1206
RES 1.5 KOHM 1% 2W 1206; Manufacturer_Name: TE Connectivity; Manufacturer_Part_Number: 3503G2B1K5FTD; Datasheet Link: https://www.te.com/commerce/DocumentDelivery/DDEController?Action=srchrtrv&DocNm=1773270-4&DocType=Data%20Sheet&DocLang=English&PartCntxt=4-2176525-9&DocFormat=pdf; Height: 0.58mm
footprint RESC3016X58N
pins: 1, 2

## 3503G2B100RFTD
designator R?, comment 100R 1% 2W 1206
RES 100 OHM 1% 2W 1206; Manufacturer_Name: TE Connectivity; Manufacturer_Part_Number: 3503G2B100RFTD; Datasheet Link: https://www.te.com/commerce/DocumentDelivery/DDEController?Action=srchrtrv&DocNm=1773270-4&DocType=Data%20Sheet&DocLang=English&PartCntxt=4-2176525-9&DocFormat=pdf; Height: 0.58mm
footprint RESC3016X58N
pins: 1, 2

## 3503G2B499RFTD
designator R?, comment 499R 1% 2W 1206
RES 499 OHM 1% 2W 1206; Manufacturer_Name: TE Connectivity; Manufacturer_Part_Number: 3503G2B499RFTD; Datasheet Link: https://www.te.com/commerce/DocumentDelivery/DDEController?Action=srchrtrv&DocNm=1773270-4&DocType=Data%20Sheet&DocLang=English&PartCntxt=4-2176525-9&DocFormat=pdf; Height: 0.58mm
footprint RESC3016X58N
pins: 1, 2

## 82223C
designator L?, comment 22uH 320mA
FIXED IND 22UH 320MA 920MOHM SMD; Manufacturer_Name: Murata Electronics; Manufacturer_Part_Number: 82223C; Datasheet Link: https://search.murata.co.jp/Ceramy/image/img/P02A/kmp_8200c.pdf; Height: 2.3mm; Mouser Part Number: 580-82223C; Mouser Price/Stock: https://www.mouser.co.uk/ProductDetail/Murata-Power-Solutions/82223C?qs=YrwRCnq4S4jab2vxz%2FxF7Q%3D%3D; Arrow Part Number: 82223C; Arrow Price/Stock: https://www.arrow.com/en/products/82223c/murata-power-solutions?utm_currency=USD&region=nac
footprint 8200
pins: 1, 2

## 760390015
designator T?
TRAFO P-P 3.3V-5.5V; Manufacturer_Name: Wurth Elektronik; Manufacturer_Part_Number: 760390015; Datasheet Link: https://www.we-online.com/components/products/datasheet/760390015.pdf; Mouser Part Number: 710-760390015; Mouser Price/Stock: https://www.mouser.co.uk/ProductDetail/Wurth-Elektronik/760390015?qs=wElim4iM2pjOQCmk%252B8YbFA%3D%3D
footprint 760390015
pins: 1, 2, 3, 4, 5, 6

## 74279228260
designator FB?
FERRITE BEAD 26 OHM @ 100 MHz 0603; Manufacturer_Name: Wurth Elektronik; Manufacturer_Part_Number: 74279228260; Datasheet Link: https://www.mouser.com/datasheet/2/445/74279228260-516425.pdf; Height: 1mm; Mouser Part Number: 710-74279228260; Mouser Price/Stock: https://www.mouser.co.uk/ProductDetail/Wurth-Elektronik/74279228260?qs=%252B7BPNfeNhvUzH8CaXHTy3g%3D%3D
footprint BEADC1608X100N
pins: 1, 2

## 74479332257247
designator L?, comment 4.7uH 2.75A
FIXED IND 4.7UH 2.75A 107MOHM SMD; Manufacturer Part Number: 74479332257247; Manufacturer: Wurth Elektronik; Match Code: WE-PMFI; Case/Size Code: 322512; DC Resistance: 107mΩ; Inductance: 4.7μH; Performance Rated Current: 2.7A; Operating Voltage (AC): 48V; Saturation Current @ 30%: 4A; Self Resonant Frequency: 25MHz; Category: Power Inductors; ComponentLink1Description: Website Link; ComponentLink1URL: https://www.we-online.com/redexpert/article/74479332257247?ad; ComponentLink2Description: Datasheet Link; ComponentLink2URL: https://www.we-online.com/redexpert/spec/74479332257247?ad; Mount: Surface Mount; Min Operating Temperature: -55°C; Max Operating Temperature: 150°C; Packaging: Tape and Reel; Length: 3.2mm; Width: 2.5mm; Height: 1.2mm
footprint WE-PMFI_322512_IPC-7351 (SMT Power Inductor, body 3.20 x 2.50 mm)
pins: 1, 2

## BAS70-04W,115
designator D?
DIODE ARR SCHOTT SERIES 70V 70MA SOT323; Manufacturer_Name: Nexperia; Manufacturer_Part_Number: BAS70-04W,115; Datasheet Link: https://assets.nexperia.com/documents/data-sheet/BAS70-04W.pdf; Height: 1.1mm; Mouser Part Number: 771-BAS70-04W-T/R; Mouser Price/Stock: https://www.mouser.co.uk/ProductDetail/Nexperia/BAS70-04W115?qs=me8TqzrmIYVfBozCNyL8nw%3D%3D; Arrow Part Number: BAS70-04W,115; Arrow Price/Stock: https://www.arrow.com/en/products/bas70-04w115/nexperia?utm_currency=USD&region=nac
footprint SOT65P210X110-3N
pins: 1 A1, 2 K2, 3 K1;_A2

## BZT52H-C6V2,115
designator D?, comment ZENER 6.2V
ZENER 6V2 SOD-123F; Manufacturer_Name: Nexperia; Manufacturer_Part_Number: BZT52H-C6V2,115; Geometry.Height: 1.2mm; Arrow Part Number: BZT52H-C6V2,115; Arrow Price/Stock: https://www.arrow.com/en/products/bzt52h-c8v2115/nexperia?region=nac; Datasheet Link: https://assets.nexperia.com/documents/data-sheet/BZT52H_SER.pdf
footprint BZT52HC5V6115
pins: 1 K, 2 A

## BZT52H-C16,115
designator D?, comment ZENER 16V
ZENER 16V SOD-123F; Manufacturer_Name: Nexperia; Manufacturer_Part_Number: BZT52H-C16,115; Geometry.Height: 1.2mm; Arrow Part Number: BZT52H-C16,115; Arrow Price/Stock: https://www.arrow.com/en/products/bzt52h-c8v2115/nexperia?region=nac; Datasheet Link: https://assets.nexperia.com/documents/data-sheet/BZT52H_SER.pdf
footprint BZT52HC5V6115
pins: 1 K, 2 A

## C0603C102J5GACTU
designator C?, comment 1nF 50V 0603
CAP CER 1000PF 50V C0G 0603; Manufacturer_Name: KEMET; Manufacturer_Part_Number: C0603C102J5GACTU; Datasheet Link: https://content.kemet.com/datasheets/KEM_C1003_C0G_SMD.pdf; Height: 0.87mm; Mouser Part Number: 80-C0603C102J5GAC; Mouser Price/Stock: https://www.mouser.co.uk/ProductDetail/KEMET/C0603C102J5GAC?qs=Zjfhvh7dXTOsQ2RXjJ2KwA%3D%3D; Arrow Part Number: C0603C102J5GAC; Arrow Price/Stock: https://www.arrow.com/en/products/c0603c102j5gac/kemet-corporation
footprint CAPC1608X87N
pins: 1, 2

## C1808C102JBGACTU
designator C?, comment 1nF 630V 1808
CAP CER 1000PF 630V C0G 1808; Manufacturer_Name: KEMET; Manufacturer_Part_Number: C1808C102JBGACTU; Datasheet Link: https://content.kemet.com/datasheets/KEM_C1009_C0G_HV_SMD.pdf; Height: 1.75mm; Mouser Part Number: 80-C1808C102JBG; Mouser Price/Stock: https://www.mouser.co.uk/ProductDetail/KEMET/C1808C102JBGACTU?qs=7IaIRco65plc2tmbg3Ygug%3D%3D; Arrow Part Number: C1808C102JBGACTU; Arrow Price/Stock: https://www.arrow.com/en/products/c1808c102jbgactu/kemet-corporation?utm_currency=USD&region=nac
footprint C1808
pins: 1, 2

## C2220C102KHGACTU
designator C?, comment 1nF 3kV 2220
CAP CER 1000PF 3KV C0G 2220; Manufacturer_Name: KEMET; Manufacturer_Part_Number: C2220C102KHGACTU; Datasheet Link: https://content.kemet.com/datasheets/KEM_C1009_C0G_HV_SMD.pdf; Height: 2.2mm; Mouser Part Number: 80-C2220C102KHGACTU; Mouser Price/Stock: https://www.mouser.co.uk/ProductDetail/KEMET/C2220C102KHGACTU?qs=sDVxE4SYDkQiR6xwfhJl6Q%3D%3D; Arrow Part Number: C2220C102KHGACTU; Arrow Price/Stock: https://www.arrow.com/en/products/c2220c102khgactu/kemet-corporation?utm_currency=USD&region=nac
footprint C2220
pins: 1, 2

## CBR06C150J5GACAUTO
designator C?, comment 15pF 50V HF 0603
CAP CER HF 15PF 50V C0G 0603; Manufacturer_Name: KEMET; Manufacturer_Part_Number: CBR06C150J5GACAUTO; Datasheet Link: https://search.kemet.com/download/datasheet/CBR06C150J5GACAUTO7411
footprint CBR06
pins: 1, 2

## CBR06C160F5GACAUTO
designator C?, comment 16pF 50V HF 0603
CAP CER HF 16PF 50V C0G 0603; Manufacturer_Name: KEMET; Manufacturer_Part_Number: CBR06C160F5GACAUTO; Datasheet Link: https://search.kemet.com/download/datasheet/CBR06C160F5GACAUTO
footprint CBR06
pins: 1, 2

## CBR06C330J5GACAUTO
designator C?, comment 33pF 50V HF 0603
CAP CER HF 33PF 50V C0G 0603; Manufacturer_Name: KEMET; Manufacturer_Part_Number: CBR06C330J5GACAUTO; Datasheet Link: https://search.kemet.com/download/datasheet/CBR06C330J5GACAUTO; Mouser Part Number: 80-CBR06C330J5GAUTO; Mouser Price/Stock: https://www.mouser.co.uk/ProductDetail/KEMET/CBR06C330J5GACAUTO?qs=By6Nw2ByBD34mt%252B59rpSTg%3D%3D; Arrow Part Number: CBR06C330J5GACAUTO; Arrow Price/Stock: https://www.arrow.com/en/products/cbr06c330j5gacauto/kemet-corporation?utm_currency=USD&region=nac
footprint CBR06
pins: 1, 2

## CL10A105KB8NNNC
designator C?, comment 1uF 50V 0603
CAP CER 1UF 50V X5R 0603; Manufacturer_Name: SAMSUNG; Manufacturer_Part_Number: CL10A105KB8NNNC; Datasheet Link: https://datasheet.datasheetarchive.com/originals/distributors/Datasheets-DGA10/2411562.pdf; Height: 0.9mm; Mouser Part Number: 187-CL10A105KB8NNNC; Mouser Price/Stock: https://www.mouser.co.uk/ProductDetail/Samsung-Electro-Mechanics/CL10A105KB8NNNC?qs=ktYoCbbtCSJz4pFCLWXd5g%3D%3D; Arrow Part Number: CL10A105KB8NNNC; Arrow Price/Stock: https://www.arrow.com/en/products/cl10a105kb8nnnc/samsung-electro-mechanics?utm_currency=USD&region=nac
footprint CAPC1608X90N
pins: 1, 2

## CL10B104JB8NNNC
designator C?, comment 100nF 50V 0603
CAP CER 0.1UF 50V X7R 0603; Manufacturer_Name: SAMSUNG; Manufacturer_Part_Number: CL10B104JB8NNNC; Datasheet Link: https://datasheet.datasheetarchive.com/originals/distributors/Datasheets_SAMA/dd149ce8a6679b37799cedb31427d43d.pdf; Height: 0.9mm; Mouser Part Number: 187-CL10B104JB8NNNC; Mouser Price/Stock: https://www.mouser.co.uk/ProductDetail/Samsung-Electro-Mechanics/CL10B104JB8NNNC?qs=349EhDEZ59oLEw5wc1qvGw%3D%3D; Arrow Part Number: CL10B104JB8NNNC; Arrow Price/Stock: https://www.arrow.com/en/products/cl10b104jb8nnnc/samsung-electro-mechanics?utm_currency=USD&region=europe
footprint CAPC1608X90N
pins: 1, 2

## CL31B104KBCNNNC
designator C?, comment 100nF 50V 1206
CAP CER 0.1UF 50V X7R 1206; Manufacturer_Name: SAMSUNG; Manufacturer_Part_Number: CL31B104KBCNNNC; Datasheet Link: https://datasheet.datasheetarchive.com/originals/distributors/Datasheets_SAMA/0fdb6a11e020a7299f4d0713dd2bd7ee.pdf; Height: 1mm; Mouser Part Number: 187-CL31B104KBCNNNC; Mouser Price/Stock: https://www.mouser.co.uk/ProductDetail/Samsung-Electro-Mechanics/CL31B104KBCNNNC?qs=349EhDEZ59oHABbyGq1iKA%3D%3D; Arrow Part Number: CL31B104KBCNNNC; Arrow Price/Stock: https://www.arrow.com/en/products/cl31b104kbcnnnc/samsung-electro-mechanics?utm_currency=USD&region=europe
footprint CAPC3216X100N
pins: 1, 2

## CL31B105KBHNNNE
designator C?, comment 1uF 50V 1206
CAP CER 1UF 50V X7R 1206; Manufacturer_Name: SAMSUNG; Manufacturer_Part_Number: CL31B105KBHNNNE; Datasheet Link: https://datasheet.datasheetarchive.com/originals/distributors/Datasheets_SAMA/5cd9a1c15dad09a7278f50cb1a2e4a6e.pdf; Height: 1.8mm; Mouser Part Number: 187-CL31B105KBHNNNE; Mouser Price/Stock: https://www.mouser.co.uk/ProductDetail/Samsung-Electro-Mechanics/CL31B105KBHNNNE?qs=349EhDEZ59oPJzVuH4J5mw%3D%3D; Arrow Part Number: CL31B105KBHNNNE; Arrow Price/Stock: https://www.arrow.com/en/products/cl31b105kbhnnne/samsung-electro-mechanics?utm_currency=USD&region=nac
footprint CAPC3216X180N
pins: 1, 2

## CL31B106KBHNNNE
designator C?, comment 10uF 50V 1206
CAP CER 10UF 50V X7R 1206; Manufacturer_Name: SAMSUNG; Manufacturer_Part_Number: CL31B106KBHNNNE; Datasheet Link: https://datasheet.datasheetarchive.com/originals/distributors/DKDS-19/375194.pdf; Height: 1.8mm; Mouser Part Number: 187-CL31B106KBHNNNE; Mouser Price/Stock: https://www.mouser.co.uk/ProductDetail/Samsung-Electro-Mechanics/CL31B106KBHNNNE?qs=T0XSgvH75d4ZN8WrMi8xmQ%3D%3D; Arrow Part Number: CL31B106KBHNNNE; Arrow Price/Stock: https://www.arrow.com/en/products/cl31b106kbhnnne/samsung-electro-mechanics?utm_currency=USD&region=europe
footprint CAPC3216X180N
pins: 1, 2

## CL31B225KBHNNNE
designator C?, comment 2.2uF 50V 1206
CAP CER 2.2UF 50V X7R 1206; Manufacturer_Name: SAMSUNG; Manufacturer_Part_Number: CL31B225KBHNNNE; Datasheet Link: https://www.arrow.com/en/products/cl31b225kbhnnne/samsung-electro-mechanics; Height: 1.8mm; Mouser Part Number: 187-CL31B225KBHNNNE; Mouser Price/Stock: https://www.mouser.co.uk/ProductDetail/Samsung-Electro-Mechanics/CL31B225KBHNNNE?qs=349EhDEZ59oNolj3jR402w%3D%3D; Arrow Part Number: CL31B225KBHNNNE; Arrow Price/Stock: https://www.arrow.com/en/products/cl31b225kbhnnne/samsung-electro-mechanics?region=nac
footprint CAPC3216X180N
pins: 1, 2

## CL31B475KBHNNNE
designator C?, comment 4.7uF 50V 1206
CAP CER 4.7UF 50V X7R 1206; Manufacturer_Name: SAMSUNG; Manufacturer_Part_Number: CL31B475KBHNNNE; Datasheet Link: https://datasheet.datasheetarchive.com/originals/distributors/Datasheets_SAMA/0d9bfbd020db3a1b9b1df73ff1d3ff74.pdf; Height: 1.8mm; Mouser Part Number: 187-CL31B475KBHNNNE; Mouser Price/Stock: https://www.mouser.co.uk/ProductDetail/Samsung-Electro-Mechanics/CL31B475KBHNNNE?qs=349EhDEZ59puU52XGPBotQ%3D%3D; Arrow Part Number: CL31B475KBHNNNE; Arrow Price/Stock: https://www.arrow.com/en/products/cl31b475kbhnnne/samsung-electro-mechanics?region=nac
footprint CAPC3216X180N
pins: 1, 2

## CPF0603B22RE1
designator R?, comment 22R 0.1% 0.063W 0603
RES 22 OHM 0.1% 1/16W 0603; Manufacturer_Name: TE Connectivity; Manufacturer_Part_Number: CPF0603B22RE1; Datasheet Link: http://www.farnell.com/datasheets/1786775.pdf; Height: 0.55mm; Mouser Part Number: 279-CPF0603B22RE1; Mouser Price/Stock: https://www.mouser.co.uk/ProductDetail/TE-Connectivity-Holsworthy/CPF0603B22RE1?qs=9ylKvqdyudkVIrb4C7ifwg%3D%3D; Arrow Part Number: CPF0603B22RE1; Arrow Price/Stock: https://www.arrow.com/en/products/cpf0603b22re1/te-connectivity?utm_currency=USD&region=nac
footprint RESC1608X55N
pins: 1, 2

## CPF0603B33RE
designator R?, comment 33R 0.1% 0.063W 0603
RES 33 OHM 0.1% 1/16W 0603; Manufacturer_Name: TE Connectivity; Manufacturer_Part_Number: CPF0603B33RE; Datasheet Link: https://www.te.com/commerce/DocumentDelivery/DDEController?Action=srchrtrv&DocNm=8-1773459-4_ELEVATOR_ESCALATOR_SOLUTIONS&DocType=Data%20Sheet&DocLang=English&PartCntxt=4-1614881-8&DocFormat=pdf; Height: 0.55mm; Mouser Part Number: 279-CPF0603B33RE; Mouser Price/Stock: https://www.mouser.co.uk/ProductDetail/TE-Connectivity-Holsworthy/CPF0603B33RE?qs=8G8kQhBkhGhs9fvyVwIWaw%3D%3D; Arrow Part Number: CPF0603B33RE; Arrow Price/Stock: https://www.arrow.com/en/products/cpf0603b33re/te-connectivity?utm_currency=USD&region=nac
footprint RESC1608X55N
pins: 1, 2

## CRCW060310K0FKEAHP
designator R?, comment 10k 1% 0.33W 0603
RES 10 KOHM 1% 1/3W 0603; Manufacturer_Name: Vishay; Manufacturer_Part_Number: CRCW060310K0FKEAHP; Datasheet Link: http://www.vishay.com/docs/20043/crcwhpe3.pdf; Height: 0.5mm; Mouser Part Number: 71-CRCW060310K0FKEAH; Mouser Price/Stock: https://www.mouser.co.uk/ProductDetail/Vishay-Dale/CRCW060310K0FKEAHP?qs=FlFvgi4rxBwhwmNEaK0SzQ%3D%3D; Arrow Part Number: CRCW060310K0FKEAHP; Arrow Price/Stock: https://www.arrow.com/en/products/crcw060310k0fkeahp/vishay?utm_currency=USD&region=europe
footprint RESC1608X50N
pins: 1, 2

## CRGCQ0603F680R
designator R?, comment 680R 1% 0.1W 0603
RES 680 OHM 1% 1/10W 0603; Manufacturer_Name: TE Connectivity; Manufacturer_Part_Number: CRGCQ0603F680R; Datasheet Link: https://componentsearchengine.com/Datasheets/2/CRGCQ0603F330R.pdf; Height: 0.55mm; Mouser Part Number: 279-CRGCQ0603F680R; Mouser Price/Stock: https://www.mouser.co.uk/ProductDetail/TE-Connectivity-Holsworthy/CRGCQ0603F330R?qs=wUXugUrL1qwnOVRnnIx0nw%3D%3D; Arrow Part Number: CRGCQ0603F680R; Arrow Price/Stock: https://www.arrow.com/en/products/crgcq0603f330r/te-connectivity?region=nac
footprint RESC1608X55N
pins: 1, 2

## CRGCQ1206F4K7
designator R?, comment 4.7k 1% 0.25W 1206
RES 4.7K OHM 1% 1/4W 1206; Manufacturer_Name: TE Connectivity; Manufacturer_Part_Number: CRGCQ1206F4K7; Datasheet Link: https://www.te.com/commerce/DocumentDelivery/DDEController?Action=showdoc&DocId=Data+Sheet%7F1773204-3%7F1%7Fpdf%7FEnglish%7FENG_DS_1773204-3_1.pdf%7F5-2176339-2; Height: 0.65mm; Mouser Part Number: 279-CRGCQ1206F4K7; Mouser Price/Stock: https://www.mouser.co.uk/ProductDetail/TE-Connectivity-Holsworthy/CRGCQ1206F4K7?qs=wUXugUrL1qw94LjckR%2FRUw%3D%3D; Arrow Part Number: CRGCQ1206F4K7; Arrow Price/Stock: https://www.arrow.com/en/products/crgcq1206f4k7/te-connectivity
footprint RESC3116X65N
pins: 1, 2

## CRGP2010F4K7
designator R?, comment 4.7k 1% 1.25W 2010
RES 4.7K OHM 1% 1.25W 2010; Manufacturer_Name: TE Connectivity; Manufacturer_Part_Number: CRGP2010F4K7; Datasheet Link: https://www.te.com/commerce/DocumentDelivery/DDEController?Action=srchrtrv&DocNm=9-1773463-9&DocType=Data%20Sheet&DocLang=English&PartCntxt=3-2176330-3&DocFormat=pdf; Height: 0.65mm; Mouser Part Number: 279-CRGP2010F4K7; Mouser Price/Stock: https://www.mouser.co.uk/ProductDetail/TE-Connectivity-Holsworthy/CRGP2010F4K7?qs=wUXugUrL1qwo%252BqRuv6Hw2A%3D%3D; Arrow Part Number: CRGP2010F4K7; Arrow Price/Stock: https://www.arrow.com/en/products/crgp2010f4k7/te-connectivity?region=nac
footprint RESC5025X65N
pins: 1, 2

## CRGP2512F47R
designator R?, comment 47R 1% 2W 2512
RES 47 OHM 1% 2W 2512; Manufacturer_Name: TE Connectivity; Manufacturer_Part_Number: CRGP2512F47R; Datasheet Link: https://www.te.com/commerce/DocumentDelivery/DDEController?Action=srchrtrv&DocNm=9-1773463-9&DocType=Data%20Sheet&DocLang=English&PartCntxt=2176331-6&DocFormat=pdf; Height: 0.65mm; Mouser Part Number: 279-CRGP2512F47R; Mouser Price/Stock: https://www.mouser.co.uk/ProductDetail/TE-Connectivity-Holsworthy/CRGP2512F27R/?qs=wUXugUrL1qwI8QBQQTI66w%3D%3D
footprint RESC6432X65N
pins: 1, 2

## ECS-200-8-30B-CKM
designator Y?, comment XTAL 20MHz 8pF
CRYSTAL 20 MHZ 8 PF SMD; Manufacturer_Name: ECS; Manufacturer_Part_Number: ECS-200-8-30B-CKM; Datasheet Link: https://ecsxtal.com/store/pdf/ecx_53b.pdf; Height: 0.85mm; Mouser Part Number: 520-200-8-30B-CKM; Mouser Price/Stock: https://www.mouser.co.uk/ProductDetail/ECS/ECS-200-8-30B-CKM?qs=ttzZIJSyan2Rq3v1HiYFFQ%3D%3D; Arrow Part Number: ECS-200-8-30B-CKM; Arrow Price/Stock: https://www.arrow.com/en/products/ecs-200-8-30b-ckm/ecs-international?utm_currency=USD&region=nac
footprint ECS200830BCKM
pins: 1 IN/OUT, 2 GND_1, 3 OUT/IN, 4 GND_2

## ERJ-3EKF1002V
designator R?, comment 10k 1% 0.1W 0603
RES 10 KOHM 1% 1/10W 0603; Manufacturer_Name: Panasonic; Manufacturer_Part_Number: ERJ-3EKF1002V; Datasheet Link: http://industrial.panasonic.com/cdbs/www-data/pdf/RDA0000/AOA0000C86.pdf; Height: 0.55mm; Mouser Part Number: 667-ERJ-3EKF1002V; Mouser Price/Stock: https://www.mouser.co.uk/ProductDetail/Panasonic/ERJ-3EKF1002V?qs=H7k1u0Mp9JSrGPQ5%2F5COuw%3D%3D; Arrow Part Number: ERJ-3EKF1002V; Arrow Price/Stock: https://www.arrow.com/en/products/erj-3ekf1002v/panasonic?utm_currency=USD&region=nac
footprint RESC1608X55N
pins: 1, 2

## ERJ-3EKF2201V
designator R?, comment 2.2k 1% 0.1W 0603
RES 2.2 KOHM 1% 1/10W 0603; Manufacturer_Name: Panasonic; Manufacturer_Part_Number: ERJ-3EKF2201V; Datasheet Link: http://industrial.panasonic.com/cdbs/www-data/pdf/RDA0000/AOA0000C86.pdf; Height: 0.55mm; Mouser Part Number: 667-ERJ-3EKF2201V; Mouser Price/Stock: https://www.mouser.co.uk/ProductDetail/Panasonic/ERJ-3EKF2201V?qs=iBwFsHVUAOcSom3i15f%252BIQ%3D%3D; Arrow Part Number: ERJ-3EKF2201V; Arrow Price/Stock: https://www.arrow.com/en/products/erj-3ekf2201v/panasonic?utm_currency=USD&region=nac
footprint RESC1608X55N
pins: 1, 2

## ERJ-3EKF4701V
designator R?, comment 4.7k 1% 0.1W 0603
RES 4.7 KOHM 1% 1/10W 0603; Manufacturer_Name: Panasonic; Manufacturer_Part_Number: ERJ-3EKF4701V; Datasheet Link: http://industrial.panasonic.com/cdbs/www-data/pdf/RDA0000/AOA0000C86.pdf; Height: 0.55mm; Mouser Part Number: 667-ERJ-3EKF4701V; Mouser Price/Stock: https://www.mouser.co.uk/ProductDetail/Panasonic/ERJ-3EKF4701V?qs=MVjVSMjNRMouVvwnqrpO2w%3D%3D; Arrow Part Number: ERJ-3EKF4701V; Arrow Price/Stock: https://www.arrow.com/en/products/erj-3ekf4701v/panasonic?utm_currency=USD&region=europe
footprint RESC1608X55N
pins: 1, 2